# Altium footprint library lib_amass.PcbLib: 1 footprints
Each footprint in its own frame and in the unit in brackets; x right, y up, seen from the top. Pads: shape width x height; smd on the part's side, far side on the other; paste and mask are expansions set on the pad; w line width, h text height; cw(c..) or ccw(c..) is an arc to the next point about the centre after c.
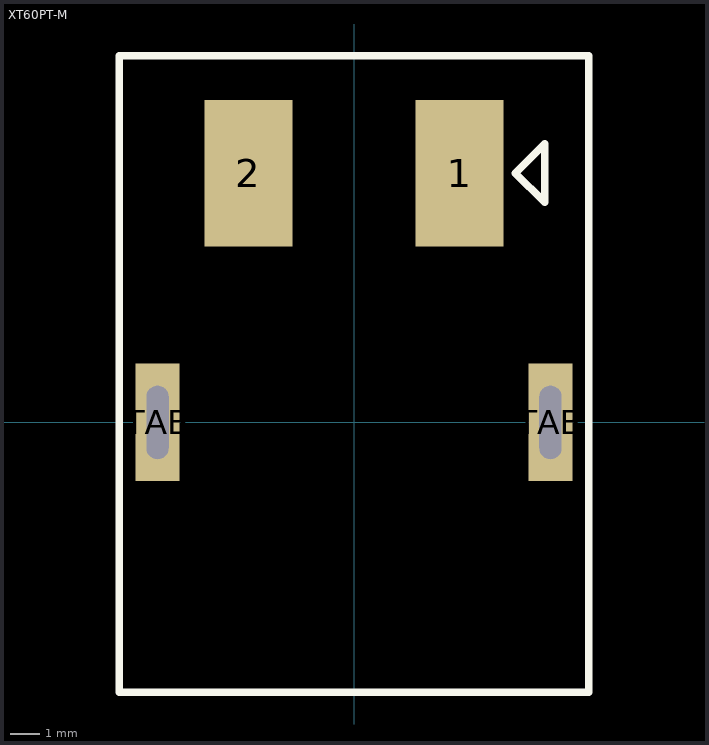
[diagram p0: the footprint, top view; thin cyan lines are the x and y axes]

## XT60PT-M [mm]
pads (4):
  rect 3x5 smd: 1(3.6,8.5) 2(-3.6,8.5)
  rect 1.5x4 hole 0.75 slot 2.5 at 90 deg: TAB(-6.7,0) TAB(6.7,0)
Top Overlay:
  lines w0.254: -8,-9.2 8,-9.2 8,12.5 -8,12.5 -8,-9.2 ; 5.5,8.5 6.5,9.5 6.5,7.5 5.5,8.5
3D body "XT60PT-M Connector With Cover Assy.STEP": height 8.45, standoff -1.43, extent -8,-9.2 8,12.5